# EAGLE library part 6120XX20621_61203420621 (library 61201021621_Eagle_WR-BHD_rev19b)
WR-BHD 2.54 mm Male SMT Box Header KIND PROPERTIES: Pitch 2.54 mm Gender:Male MATERIAL PROPERTIES: Insulator Material:PA6T Insulator Flammability Rating UL94 V-0 Insulator Color:Black Contact Material :Copper Alloy Contact Plating :Gold Contact Type: Stamped GENERAL INFORMATION: Operating Temperature:-40 °C up to +125 °C Compliance:RoHS Working Voltage: 250 V (AC) Withstanding Voltage:500 V (AC) Contact Resistance: 20 mΩ Insulation Resistance:1000 MΩ CERTIFICATION: UL Approval:E323964 PACKAGING PROPERTIES Packaging :Tube <https://katalog.we-online.com/media/images/v2/o32919v209%20Family_WR-BHD_612xxx20621.jpg> Details see: https://katalog.we-online.com/en/em/BHD_2_54_SMT_MALE_BOX_HEADER_6120XX20621 Updated by Yingchun,Shan 2019-10-30 2019 (C) Würth Elektronik
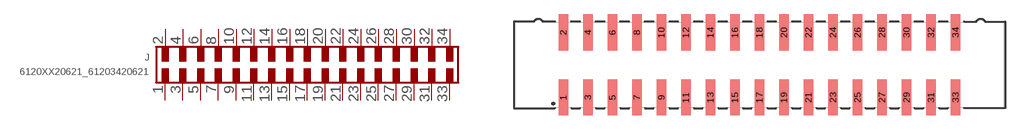
[diagram p54: symbol with the pads of 61203420621; footprint 61203420621]

Designator prefix J

## 6120XX20621_61203420621 (CONTACT-RESISTANCE: 20mOhm; DATASHEET-URL: https://katalog.we-online.com/em/datasheet/61203420621.pdf; GENDER: Male; IR: 3A; L: 50.98mm; MOUNT: SMT; PACKAGING: Tube; PART-NUMBER: 61203420621; PINS: 34; PITCH: 2.54mm; TOL-R: max.; TYPE: Straight; WORKING-VOLTAGE: 250V(AC))  [61203420621]
1  1  pas
2  2  pas
3  3  pas
4  4  pas
5  5  pas
6  6  pas
7  7  pas
8  8  pas
9  9  pas
10  10  pas
11  11  pas
12  12  pas
13  13  pas
14  14  pas
15  15  pas
16  16  pas
17  17  pas
18  18  pas
19  19  pas
20  20  pas
21  21  pas
22  22  pas
23  23  pas
24  24  pas
25  25  pas
26  26  pas
27  27  pas
28  28  pas
29  29  pas
30  30  pas
31  31  pas
32  32  pas
33  33  pas
34  34  pas

## Footprint 61203420621 (pad centres in mm)
WR-BHD 2.54 mm Male SMT Box Header, 34 pins
smd 1 x 3.75: 1 -20.32,-3.375; 2 -20.32,3.375; 3 -17.78,-3.375; 4 -17.78,3.375; 5 -15.24,-3.375; 6 -15.24,3.375; 7 -12.7,-3.375; 8 -12.7,3.375; 9 -10.16,-3.375; 10 -10.16,3.375; 11 -7.62,-3.375; 12 -7.62,3.375; 13 -5.08,-3.375; 14 -5.08,3.375; 15 -2.54,-3.375; 16 -2.54,3.375; 17 0,-3.375; 18 0,3.375; 19 2.54,-3.375; 20 2.54,3.375; 21 5.08,-3.375; 22 5.08,3.375; 23 7.62,-3.375; 24 7.62,3.375; 25 10.16,-3.375; 26 10.16,3.375; 27 12.7,-3.375; 28 12.7,3.375; 29 15.24,-3.375; 30 15.24,3.375; 31 17.78,-3.375; 32 17.78,3.375; 33 20.32,-3.375; 34 20.32,3.375